# EAGLE library part MRF112 (library switch-nkk)
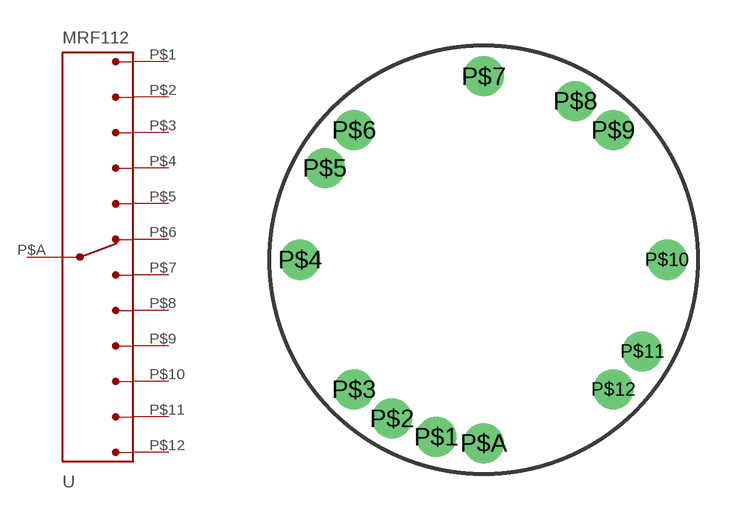
[diagram p0: symbol with the pads of MRF112; footprint MRF112]

Designator prefix -

## MRF112 (DIGIKEY: 360-2370-ND; POWER: 400mVA; VOLTS: 28)  [MRF112]
P$1  1  pas
P$2  2  pas
P$3  3  pas
P$4  4  pas
P$5  5  pas
P$6  6  pas
P$7  7  pas
P$8  8  pas
P$9  9  pas
P$10  10  pas
P$11  11  pas
P$12  12  pas
P$A  A  pas

## Footprint MRF112 (pad centres in mm)
drill 0.8: P$1 -1.553,-5.796; P$2 -3,-5.196; P$3 -4.243,-4.243; P$4 -6,0; P$5 -5.196,3; P$6 -4.243,4.243; P$7 0,6; P$8 3,5.196; P$9 4.243,4.243; P$10 6,0; P$11 5.196,-3; P$12 4.243,-4.243; P$A 0,-6